# Altium integrated library pletronics.IntLib: 1 symbol
Pins are listed as number, name and electrical type; pins without a type are passive.

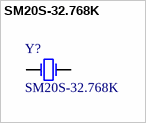
[diagram p0: symbol SM20S-32.768K]

## SM20S-32.768K
designator Y?
Crystal, 32.768 kHz, 12.5 pF, 20,ppm, -40 to 125C
footprint SM20S-32.768K
pins: 1, 3